# Altium schematic symbol library Control.SCHLIB: 10 symbols
Pins are listed as number, name and electrical type; pins without a type are passive.

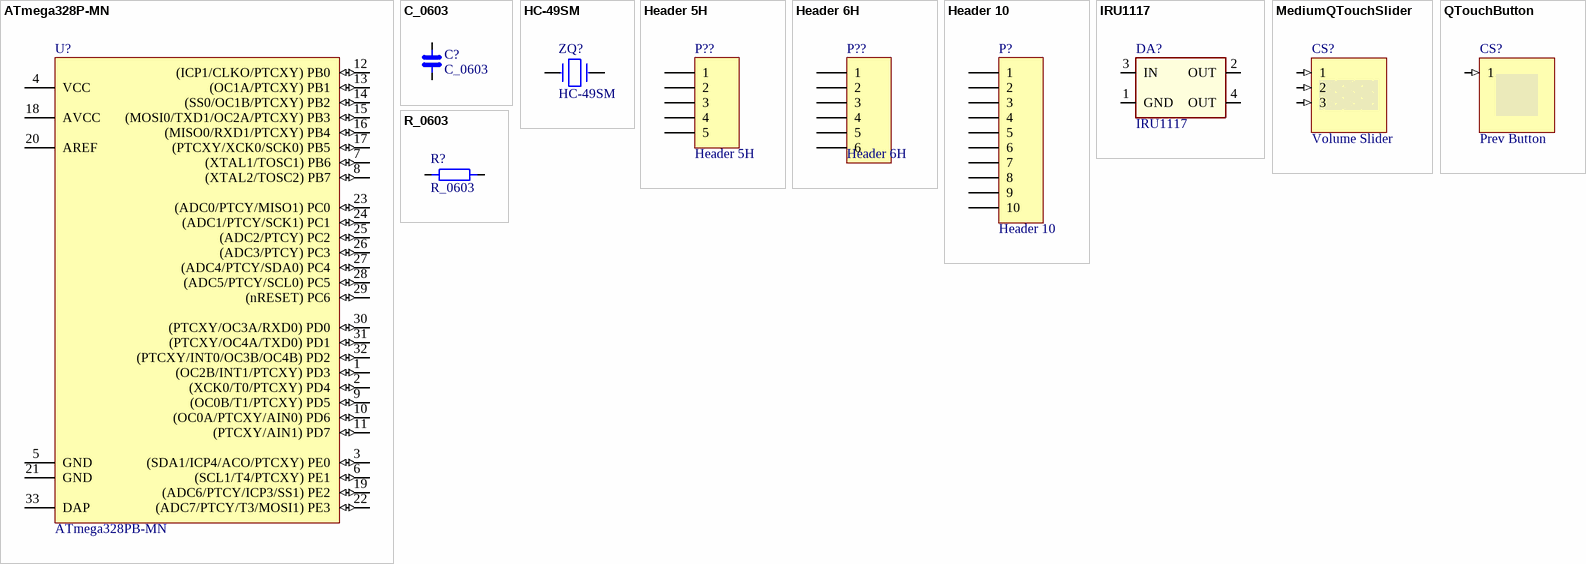
[diagram p0: symbols ATmega328P-MN to R_0603]

## ATmega328P-MN
designator U?, comment ATmega328PB-MN
8-bit AVR Microcontroller, 32KB Flash, 1KB EEPROM, 2KB SRAM, 32-pin MLF, Industrial Grade (-40°C to 105°C); DatasheetVersion: revD, May-2011; PackageVersion: revE, May-2006; PackageReference: 32M1-A; PackageDescription: 32-Pin Micro Lead Frame Package (MLF),  5 x 5 x 1.0 mm Body, Pitch 0.50 mm, 3.10mm Exposed Pad; Code_JEDEC: MO-220-VHHD-2; ComponentLink1Description: Manufacturer URL; ComponentLink1URL: http://www.atmel.com/; ComponentLink2Description: ATmega48A/48PA/88A/88PA/168A/168PA/328/328P Datasheet; ComponentLink2URL: http://www.atmel.com/dyn/resources/prod_documents/8271.pdf; ComponentLink3Description: ATmega48A/48PA/88A/88PA/168A/168PA/328/328P Summary; ComponentLink3URL: http://www.atmel.com/dyn/resources/prod_documents/8271S.pdf
footprint 32M1-A_N (QFN, 32-Leads, Body 5x5mm, Pitch 0.5mm, Thermal Pad 3.3x3.3mm, IPC Medium Density)
footprint 32M1-A_L (QFN, 32-Leads, Body 5x5mm, Pitch 0.5mm, Thermal Pad 3.3x3.3mm, IPC High Density)
footprint 32M1-A_M (QFN, 32-Leads, Body 5x5mm, Pitch 0.5mm, Thermal Pad 3.3x3.3mm, IPC Low Density)
pins: 1 (OC2B/INT1/PTCXY) PD3 (io), 2 (XCK0/T0/PTCXY) PD4 (io), 3 (SDA1/ICP4/ACO/PTCXY) PE0 (io), 4 VCC (power), 5 GND (power), 6 (SCL1/T4/PTCXY) PE1 (io), 7 (XTAL1/TOSC1) PB6 (io), 8 (XTAL2/TOSC2) PB7 (io), 9 (OC0B/T1/PTCXY) PD5 (io), 10 (OC0A/PTCXY/AIN0) PD6 (io), 11 (PTCXY/AIN1) PD7 (io), 12 (ICP1/CLKO/PTCXY) PB0 (io), 13 (OC1A/PTCXY) PB1 (io), 14 (SS0/OC1B/PTCXY) PB2 (io), 15 (MOSI0/TXD1/OC2A/PTCXY) PB3 (io), 16 (MISO0/RXD1/PTCXY) PB4 (io), 17 (PTCXY/XCK0/SCK0) PB5 (io), 18 AVCC (power), 19 (ADC6/PTCY/ICP3/SS1) PE2 (io), 20 AREF, 21 GND (power), 22 (ADC7/PTCY/T3/MOSI1) PE3 (io), 23 (ADC0/PTCY/MISO1) PC0 (io), 24 (ADC1/PTCY/SCK1) PC1 (io), 25 (ADC2/PTCY) PC2 (io), 26 (ADC3/PTCY) PC3 (io), 27 (ADC4/PTCY/SDA0) PC4 (io), 28 (ADC5/PTCY/SCL0) PC5 (io), 29 (nRESET) PC6 (io), 30 (PTCXY/OC3A/RXD0) PD0 (io), 31 (PTCXY/OC4A/TXD0) PD1 (io), 32 (PTCXY/INT0/OC3B/OC4B) PD2 (io), 33 DAP (power)

## C_0603
designator C?
Manufacturer: AVX; Type: X7R; Voltage: 50V; TCC: ±15%; Tolerance: ±20%; Package: 0603; ManufacturerPartNumber: *
footprint SM/C_0603
pins: 1, 2

## HC-49SM
designator ZQ?
Тип: HC-49SM-11.0592; Прим: Hosonic
footprint HC-49SM
pins: 1, 2

## Header 5H
designator P??
Header, 5-Pin, Right Angle; LatestRevisionDate: 17-Jul-2002; LatestRevisionNote: Re-released for DXP Platform.; Publisher: Altium Limited
footprint Header 5 SMD
pins: 1, 2, 3, 4, 5

## Header 6H
designator P??
Header, 5-Pin, Right Angle; LatestRevisionDate: 17-Jul-2002; LatestRevisionNote: Re-released for DXP Platform.; Publisher: Altium Limited
footprint Header 6 SMD
pins: 1, 2, 3, 4, 5, 6

## Header 10
designator P?
Header, 10-Pin; LatestRevisionDate: 17-Jul-2002; LatestRevisionNote: Re-released for DXP Platform.; Publisher: Altium Limited
footprint FRCONN_SM_10
pins: 1, 2, 3, 4, 5, 6, 7, 8, 9, 10

## IRU1117
designator DA?
Тип: IRU1117-18CY; Package: SOT-223
footprint SOT223
pins: 1 GND, 2 OUT, 3 IN, 4 OUT

## MediumQTouchSlider
designator CS?, comment Volume Slider  (no BOM)
Medium QTouch Slider; ConfiguratorName: ATMEL_TOUCH; ConfigurationParameters: {}__sensorid[4]{}width[60]{}height[10]{}gapthickness[0.3]{}
pins: 1 (in), 2 (in), 3 (in)

## QTouchButton
designator CS?, comment Prev Button  (no BOM)
QTouch Button; ConfiguratorName: ATMEL_TOUCH; ConfigurationParameters: {}__sensorid[1]{}width[10]{}height[10]{}
pins: 1 (in)

## R_0603
designator R?
Manufacturer: YAGEO; Tolerance: ±5%; TCR: ±100ppm/°C; Power: 1/10W; Type: RC; Package: 0603; ManufacturerPartNumber: *
footprint SM/R_0603
pins: 1, 2